# Altium schematic symbol library ICL7660.SchLib: 1 symbol
Pins are listed as number, name and electrical type; pins without a type are passive.

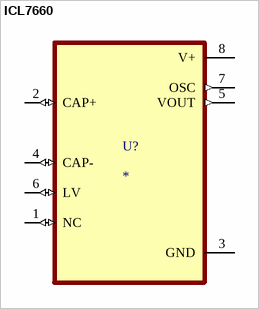
[diagram p0: symbol ICL7660]

## ICL7660
designator U?
Charge Pump Switching Regulator IC Positive or Negative Fixed -Vin, nVin, Vin/2 1 Output 20mA 8-SOIC _0.154, 3.90mm Width_; MF: Maxim Integrated; MP: ICL7660CSA; Value: *; Package: SOIC-8 Maxim Integrated; Availability: Unavailable; SnapEDA_Link: https://www.snapeda.com/parts/ICL7660CSA/Maxim%20Integrated/view-part/4614295/?ref=snap; Price: None
footprint DIP254P762X533-8
pins: 1 NC (io), 2 CAP+ (io), 3 GND (power), 4 CAP- (io), 5 VOUT (out), 6 LV (io), 7 OSC (out), 8 V+ (power)